# Altium footprint library point47uF.PcbLib: 3 footprints
Each footprint in its own frame and in the unit in brackets; x right, y up, seen from the top. Pads: shape width x height; smd on the part's side, far side on the other; paste and mask are expansions set on the pad; w line width, h text height; cw(c..) or ccw(c..) is an arc to the next point about the centre after c.
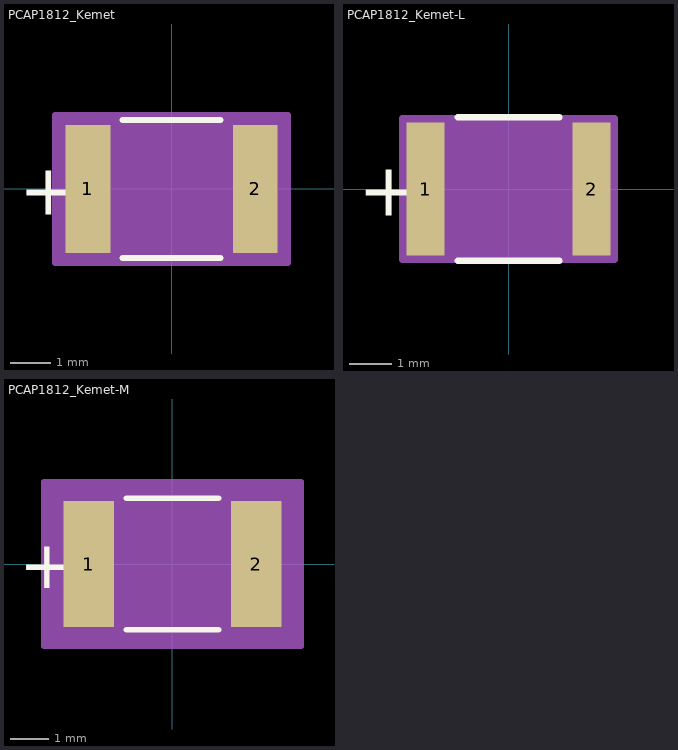
[diagram p0: the footprints below, top view; thin cyan lines are the x and y axes]

## PCAP1812_Kemet [mil]
pads (2):
  rect 44x125 smd paste+0 mask+0: 1(-82,0) 2(82,0)
Top Overlay:
  lines w6: -47.89,-67.5 47.89,-67.5 ; -47.89,67.5 47.89,67.5
  text "+" at -149.5,-25 h50
Mechanical 13:
  lines w1: -90,-62.5 -90,62.5 ; -90,-62.5 90,-62.5 ; -90,-62.5 -60,-62.5 -60,62.5 -90,62.5 ; -90,-62.5 -90,62.5 ; -90,62.5 90,62.5 ; 90,-62.5 90,62.5 ; 90,-62.5 90,62.5 ; 90,-62.5 60,-62.5 60,62.5 90,62.5
  text "+" at -149.5,-25 h50
Mechanical 15:
  region: 114,-72.5 -114,-72.5 -114,72.5 114,72.5
  lines w6: -114,-72.5 114,-72.5 114,72.5 -114,72.5 -114,-72.5
3D body "C1812C474K5RACTU.step": height 43.31, standoff 0, extent -94.49,-70 94.49,67.8

## PCAP1812_Kemet-L [mil]
pads (2):
  rect 36x125 smd paste+0 mask+0: 1(-78,0) 2(78,0)
Top Overlay:
  lines w6: -47.89,-67.5 47.89,-67.5 ; -47.89,67.5 47.89,67.5
  text "+" at -141.5,-25 h50
Mechanical 13:
  lines w1: -90,-62.5 -90,62.5 ; -90,-62.5 -60,-62.5 -60,62.5 -90,62.5 ; -90,-62.5 90,-62.5 ; -90,-62.5 -90,62.5 ; -90,62.5 90,62.5 ; 90,-62.5 60,-62.5 60,62.5 90,62.5 ; 90,-62.5 90,62.5 ; 90,-62.5 90,62.5
  text "+" at -141.5,-25 h50
Mechanical 15:
  region: 100,-66.5 -100,-66.5 -100,66.5 100,66.5
  lines w6: -100,-66.5 -100,66.5 100,66.5 100,-66.5 -100,-66.5
3D body: height 10, standoff 0, extent 0,0 10,10

## PCAP1812_Kemet-M [mil]
pads (2):
  rect 52x129 smd paste+0 mask+0: 1(-86,0) 2(86,0)
Top Overlay:
  lines w6: -47.25,-67.5 47.25,-67.5 ; -47.25,67.5 47.25,67.5
  text "+" at -157.5,-25 h50
Mechanical 13:
  lines w1: -90,-62.5 -90,62.5 ; -90,-62.5 -60,-62.5 -60,62.5 -90,62.5 ; -90,-62.5 90,-62.5 ; -90,-62.5 -90,62.5 ; -90,62.5 90,62.5 ; 90,-62.5 60,-62.5 60,62.5 90,62.5 ; 90,-62.5 90,62.5 ; 90,-62.5 90,62.5
  text "+" at -157.5,-25 h50
Mechanical 15:
  region: 132,-84.5 -132,-84.5 -132,84.5 132,84.5
  lines w6: -132,-84.5 -132,84.5 132,84.5 132,-84.5 -132,-84.5
3D body: height 10, standoff 0, extent 0,0 10,10